# Altium integrated library SSW-110-01-G-D.IntLib: 1 symbol
Pins are listed as number, name and electrical type; pins without a type are passive.

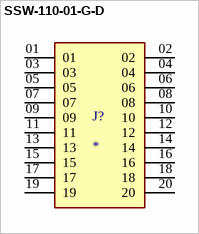
[diagram p0: symbol SSW-110-01-G-D]

## SSW-110-01-G-D
designator J?
MP: SSW-110-01-G-D; MF: Samtec Inc.; Price: None; Value: *; Availability: Unavailable; Package: None
footprint SAMTEC_SSW-110-01-G-D
pins: 01, 02, 03, 04, 05, 06, 07, 08, 09, 10, 11, 12, 13, 14, 15, 16, 17, 18, 19, 20